# EAGLE library part MOLEX-MICROUSB (library molex)
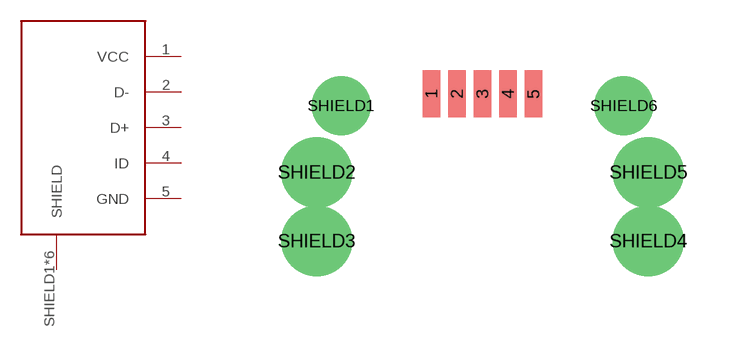
[diagram p1: symbol with the pads of MOLEX:105443-1101; footprint MOLEX:105443-1101]

Designator prefix -

## MOLEX-MICROUSB  [MOLEX:105443-1101]
1  VCC
2  D-
3  D+
4  ID
5  GND
SHIELD1  SHIELD
SHIELD2  SHIELD
SHIELD3  SHIELD
SHIELD4  SHIELD
SHIELD5  SHIELD
SHIELD6  SHIELD

## Footprint MOLEX:105443-1101 (pad centres in mm)
smd 0.45 x 1.2: 1 -1.3,4.85; 2 -0.65,4.85; 3 0,4.85; 4 0.65,4.85; 5 1.3,4.85
drill 1: SHIELD1 -3.6,4.55; SHIELD6 3.6,4.55
drill 1.2: SHIELD2 -4.225,2.85; SHIELD3 -4.225,1.1; SHIELD4 4.225,1.1; SHIELD5 4.225,2.85